# Altium footprint library Capacitors.PcbLib: 23 footprints (part 2 of 2)
Each footprint in its own frame and in the unit in brackets; x right, y up, seen from the top. Pads: shape width x height; smd on the part's side, far side on the other; paste and mask are expansions set on the pad; w line width, h text height; cw(c..) or ccw(c..) is an arc to the next point about the centre after c.
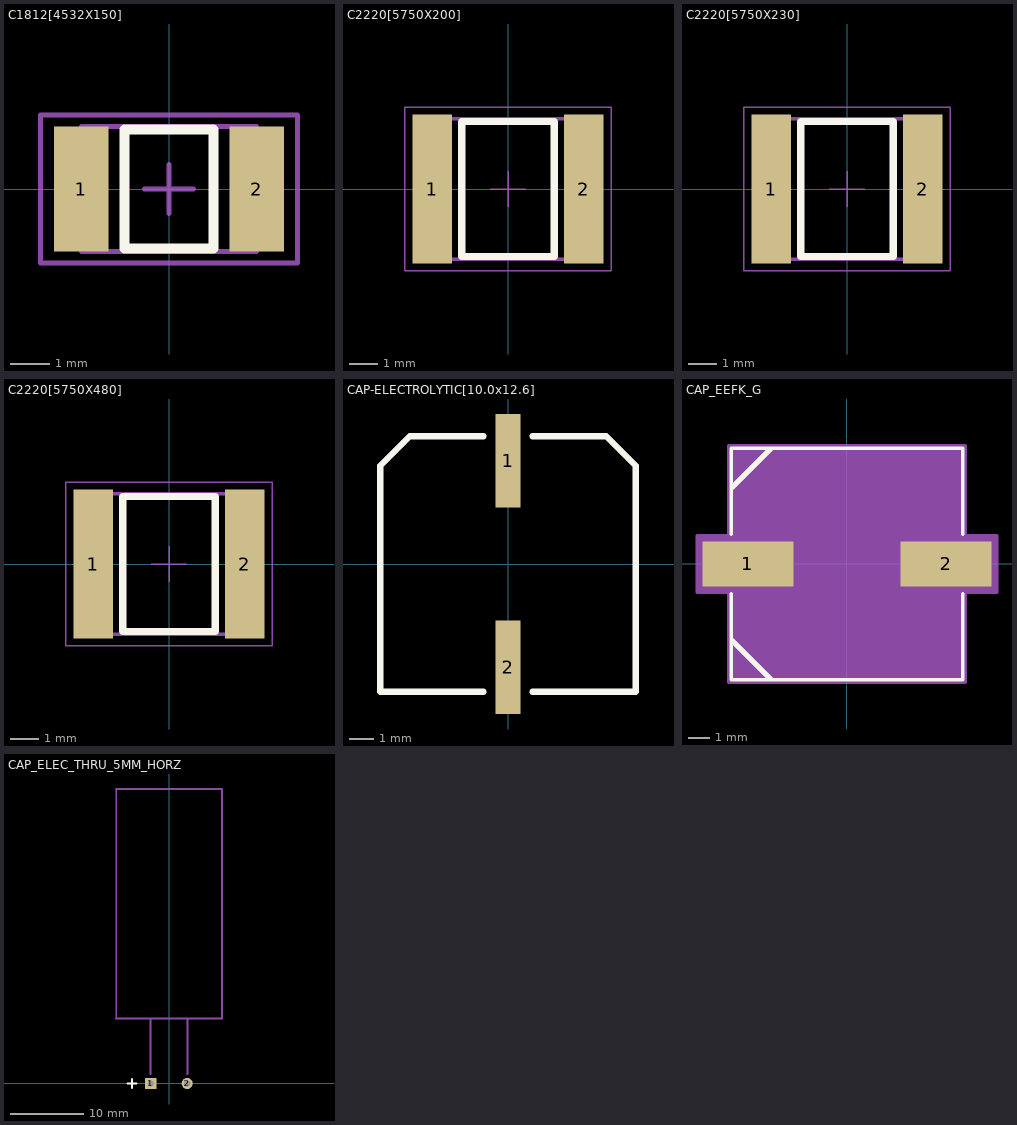
[diagram p1: the footprints below, top view; thin cyan lines are the x and y axes]

## C1812[4532X150] [mm] "Chip Capacitor, Body 4.5x3.2mm"
height 1.5
pads (2):
  rect 1.4x3.2 smd: 1(-2.25,0) 2(2.25,0)
Top Overlay:
  lines w0.254: -1.143,-1.524 -1.143,1.524 1.143,1.524 1.143,-1.524 -1.143,-1.524
Mechanical 2:
  lines w0.127: -0.635,0 0.635,0 ; 0,-0.635 0,0.635 ; -3.302,-1.905 3.302,-1.905 3.302,1.905 -3.302,1.905 -3.302,-1.905
Mechanical 3:
  lines w0.127: -2.25,-1.6 2.25,-1.6 2.25,1.6 -2.25,1.6 -2.25,-1.6
3D body "CAPC4532X150N CDR34.step": height 1.51, standoff 0.01, extent -2.25,-1.6 2.25,1.6

## C2220[5750X200] [mm] "Chip Capacitor, Body 5.7x5.0mm"
height 2
pads (2):
  rect 1.4x5.3 smd: 1(-2.7,0) 2(2.7,0)
Top Overlay:
  lines w0.254: -1.651,-2.413 -1.651,2.413 1.651,2.413 1.651,-2.413 -1.651,-2.413
Mechanical 2:
  lines w0.051: -0.635,0 0.635,0 ; 0,-0.635 0,0.635 ; -3.683,-2.921 3.683,-2.921 3.683,2.921 -3.683,2.921 -3.683,-2.921
Mechanical 3:
  lines w0.127: -2.85,-2.5 2.85,-2.5 2.85,2.5 -2.85,2.5 -2.85,-2.5
3D body "CAPC5750X200N EIA 2220.step": height 2.01, standoff 0.01, extent -2.85,-2.5 2.85,2.5

## C2220[5750X230] [mm] "Chip Capacitor, Body 5.7x5.0mm"
height 2
pads (2):
  rect 1.4x5.3 smd: 1(-2.7,0) 2(2.7,0)
Top Overlay:
  lines w0.254: -1.651,-2.413 -1.651,2.413 1.651,2.413 1.651,-2.413 -1.651,-2.413
Mechanical 2:
  lines w0.051: -0.635,0 0.635,0 ; 0,-0.635 0,0.635 ; -3.683,-2.921 3.683,-2.921 3.683,2.921 -3.683,2.921 -3.683,-2.921
Mechanical 3:
  lines w0.127: -2.85,-2.5 2.85,-2.5 2.85,2.5 -2.85,2.5 -2.85,-2.5
3D body "CAPC5750X230N EIA 2220.step": height 2.29, standoff -0.01, extent -2.85,-2.5 2.85,2.5

## C2220[5750X480] [mm] "Chip Capacitor, Body 5.7x5.0mm"
height 2
pads (2):
  rect 1.4x5.3 smd: 1(-2.7,0) 2(2.7,0)
Top Overlay:
  lines w0.254: -1.651,-2.413 -1.651,2.413 1.651,2.413 1.651,-2.413 -1.651,-2.413
Mechanical 2:
  lines w0.051: -0.635,0 0.635,0 ; 0,-0.635 0,0.635 ; -3.683,-2.921 3.683,-2.921 3.683,2.921 -3.683,2.921 -3.683,-2.921
Mechanical 3:
  lines w0.127: -2.85,-2.5 2.85,-2.5 2.85,2.5 -2.85,2.5 -2.85,-2.5
3D body "CAPC5750X230N EIA 2220.step": height 2.29, standoff -0.01, extent -2.85,-2.5 2.85,2.5
3D body "CAPC5750X230N EIA 2220.step": height 4.58, standoff 2.28, extent -2.85,-2.5 2.85,2.5

## CAP-ELECTROLYTIC[10.0x12.6] [mm]
pads (2):
  rect 1x3.8 smd: 1(0,4.2) 2(0,-4.2)
Top Overlay:
  lines w0.254: -1,-5.2 -5.2,-5.2 -5.2,4 -4,5.2 -1,5.2 ; 1,-5.2 5.2,-5.2 5.2,4 4,5.2 1,5.2
3D body "NICHICON_UWT1H221MNL1GS.STEP": height 10.2, standoff 0, extent -5.2,-5.451 5.1,5.449

## CAP_EEFK_G [mil]
pads (2):
  rect 166x83 smd paste+0 mask+0: 1(-181,0) 2(181,0)
Top Overlay:
  lines w6: -211.5,-54.6 -211.5,-211.5 211.5,-211.5 211.5,-54.6 ; -211.5,54.6 -211.5,211.5 211.5,211.5 211.5,54.6
  lines w10: -210,-140 -140,-210 ; -210,140 -140,210
Mechanical 13:
  lines w1: -206.5,-103.25 -103.25,-206.5 ; -206.5,103.25 -103.25,206.5 ; -206.5,-206.5 -206.5,206.5 206.5,206.5 206.5,-206.5 -206.5,-206.5
Mechanical 15:
  region: -216.5,-51.5 -274,-51.5 -274,51.5 -216.5,51.5 -216.5,216.5 216.5,216.5 216.5,51.5 274,51.5 274,-51.5 216.5,-51.5 216.5,-216.5 -216.5,-216.5
  lines w6: -274,-51.5 -216.5,-51.5 -216.5,-216.5 216.5,-216.5 216.5,-51.5 274,-51.5 274,51.5 216.5,51.5 216.5,216.5 -216.5,216.5 -216.5,51.5 -274,51.5 -274,-51.5
3D body "CAP_EEFK_G.stp": height 415, standoff 0, extent -235.98,-206.5 235.98,206.5
3D body: height 10, standoff 0, extent 0,0 10,10

## CAP_ELEC_THRU_5MM_HORZ [mm]
pads (2):
  rect 1.524x1.524 hole 0.85: 1(-2.5,0)
  round 1.524 hole 0.85: 2(2.5,0)
Top Overlay:
  lines w0.254: -5.715,0 -4.445,0 ; -5.08,-0.635 -5.08,0.635
Mechanical 1:
  region: 6.731,5.842
  lines w0.254: -7.25,8.89 7.25,8.89 7.25,40.39 -7.25,40.39 ; -7.239,8.89 -7.239,40.39 ; -2.54,1.27 -2.54,8.89 ; 2.54,1.27 2.54,8.89
3D body "User Library-CapAluRadial_D125H300P50.step": height 6.75, standoff -5.75, extent -6.25,5 6.251,38.001